# Altium footprint library PPTC191LFBN-RC.PCBLIB: 1 footprints
Each footprint in its own frame and in the unit in brackets; x right, y up, seen from the top. Pads: shape width x height; smd on the part's side, far side on the other; paste and mask are expansions set on the pad; w line width, h text height; cw(c..) or ccw(c..) is an arc to the next point about the centre after c.
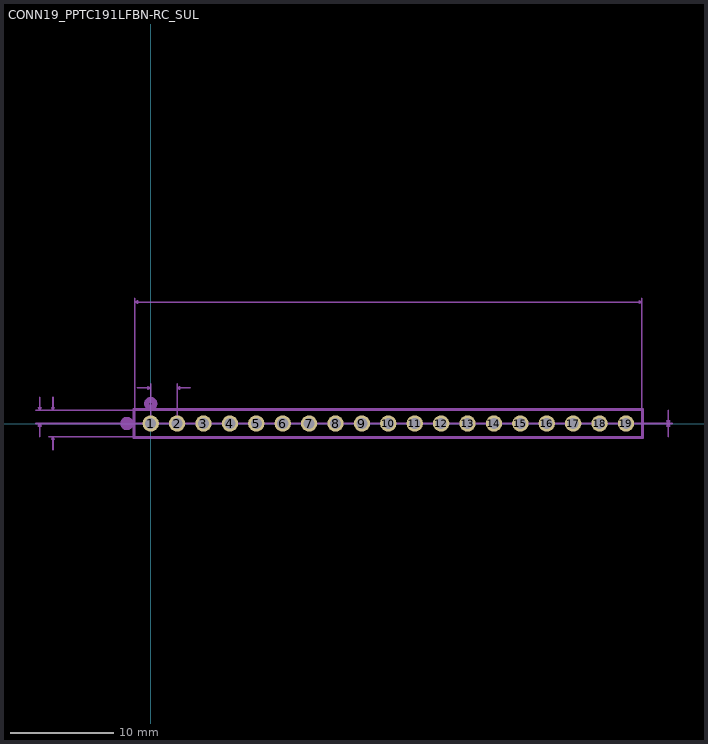
[diagram p0: the footprint, top view; thin cyan lines are the x and y axes]

## CONN19_PPTC191LFBN-RC_SUL [mil]
pads (19):
  round 62 hole 42: 1(0,0) 2(100,0) 3(200,0) 4(300,0) 5(400,0) 6(500,0) 7(600,0) 8(700,0) 9(800,0) 10(900,0) 11(1000,0) 12(1100,0) 13(1200,0) 14(1300,0) 15(1400,0) 16(1500,0) 17(1600,0) 18(1700,0) 19(1800,0)
tDocu:
  lines w6: -60,-50 1860,-50 1860,50 -60,50 -60,-50
  lines w20: -15,75 ccw(c0,75) 15,75 ccw(c0,75) -15,75
tPlace:
  lines w6: -65,-55 1865,-55 1865,55 -65,55 -65,-55
  lines w20: -105,0 ccw(c-90,0) -75,0 ccw(c-90,0) -105,0
bPlace:
  lines w20: -105,0 ccw(c-90,0) -75,0 ccw(c-90,0) -105,0
Measures:
  lines w6: -435,0 -420,0 ; -435,50 -420,50 ; -420,-50 -420,0 ; -420,100 -420,50 ; -385,-50 -370,-50 ; -370,-100 -370,-50 ; -370,100 -370,50 ; -60,-50 -370,-50 ; -60,475 -60,460 ; -50,135 0,135 ; 0,150 0,135 ; 100,0 100,135 ; 100,150 100,135 ; 150,135 100,135 ; 1860,50 1860,460 ; 1860,475 1860,460 ; 1960,-50 1960,0 ; 1960,50 1960,0 ; 1975,0 1960,0 ; -420,0 0,0 ; -420,0 -425,-10 -415,-10 -420,0 ; -420,50 -425,60 -415,60 -420,50 ; -420,50 -370,50 ; -370,-50 -375,-60 -365,-60 -370,-50 ; -370,50 -60,50 -60,460 ; -370,50 -375,60 -365,60 -370,50 ; -60,460 1860,460 ; -60,460 -50,465 -50,455 -60,460 ; 0,0 0,135 ; 0,0 1960,0 ; 0,135 -10,140 -10,130 0,135 ; 100,135 110,140 110,130 100,135 ; 1860,460 1850,465 1850,455 1860,460 ; 1960,0 1955,10 1965,10 1960,0 ; 1960,0 1955,-10 1965,-10 1960,0
  text "Default Padstyle: OX62Y62D42P" at 279,-210 h77.5
  text "1st Mtg Padstyle: RX110Y80D50P" at 249,-285 h77.5
  text "2nd Mtg Padstyle: RX100Y300D70P" at 219,-360 h77.5
  text "3rd Mtg Padstyle: RX100Y70D10P" at 241,-435 h77.5
  text "Left Mtg Padstyle: EX60Y60D30P" at 256,-510 h77.5
  text "Right Mtg Padstyle: EX60Y60D30P" at 233,-585 h77.5
  text "Alt Padstyle 1: OX60Y90D30P" at 317,-660 h77.5
  text "Alt Padstyle 2: OX90Y60D30P" at 317,-735 h77.5
  text "0.1in/2.54mm" at -75,155 h38.75
  text "1.92in/48.768mm" at 741,480 h38.75
  text "0in/0mm" at 1980,-12 h38.75
  text "0.05in/1.27mm" at -713,12 h38.75
  text "0.1in/2.54mm" at -640,-12 h38.75